# EAGLE library part USB-B_V (library Traficon)
USB Vertical connector
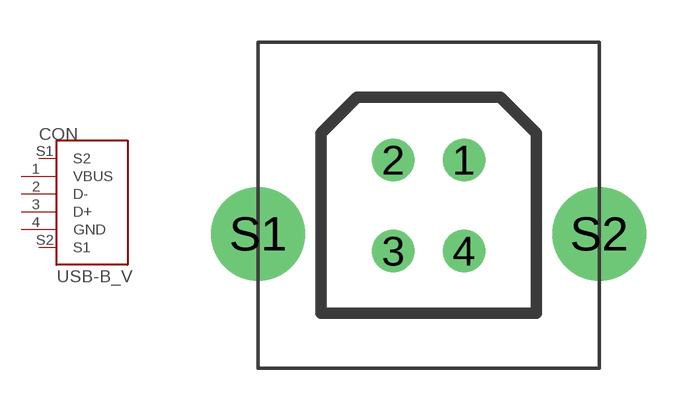
[diagram p5: symbol with the pads of USB-B_V; footprint USB-B_V]

Designator prefix CON

## USB-B_V  [USB-B_V]
1  VBUS  pas
2  D-  pas
3  D+  pas
4  GND  pas
S1  S2  pas
S2  S1  pas

## Footprint USB-B_V (pad centres in mm)
drill 1 round: 1 1.25,1.6; 2 -1.25,1.6; 3 -1.25,-1.61; 4 1.25,-1.61
drill 2.3 round: S1 -6.02,-1.01; S2 6.02,-1.01